# Altium footprint library Hole.PcbLib: 2 footprints
Each footprint in its own frame and in the unit in brackets; x right, y up, seen from the top. Pads: shape width x height; smd on the part's side, far side on the other; paste and mask are expansions set on the pad; w line width, h text height; cw(c..) or ccw(c..) is an arc to the next point about the centre after c.
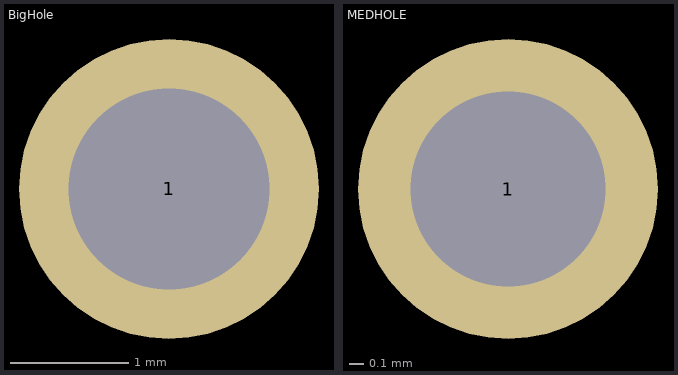
[diagram p0: the footprints below, top view; thin cyan lines are the x and y axes]

## BigHole [mil]
pads (1):
  round 100 hole 67: 1(100,300)

## MEDHOLE [mil]
pads (1):
  round 80 hole 52: 1(500,3000)